# Altium footprint library PCB封装.PcbLib: 11 footprints
Each footprint in its own frame and in the unit in brackets; x right, y up, seen from the top. Pads: shape width x height; smd on the part's side, far side on the other; paste and mask are expansions set on the pad; w line width, h text height; cw(c..) or ccw(c..) is an arc to the next point about the centre after c.
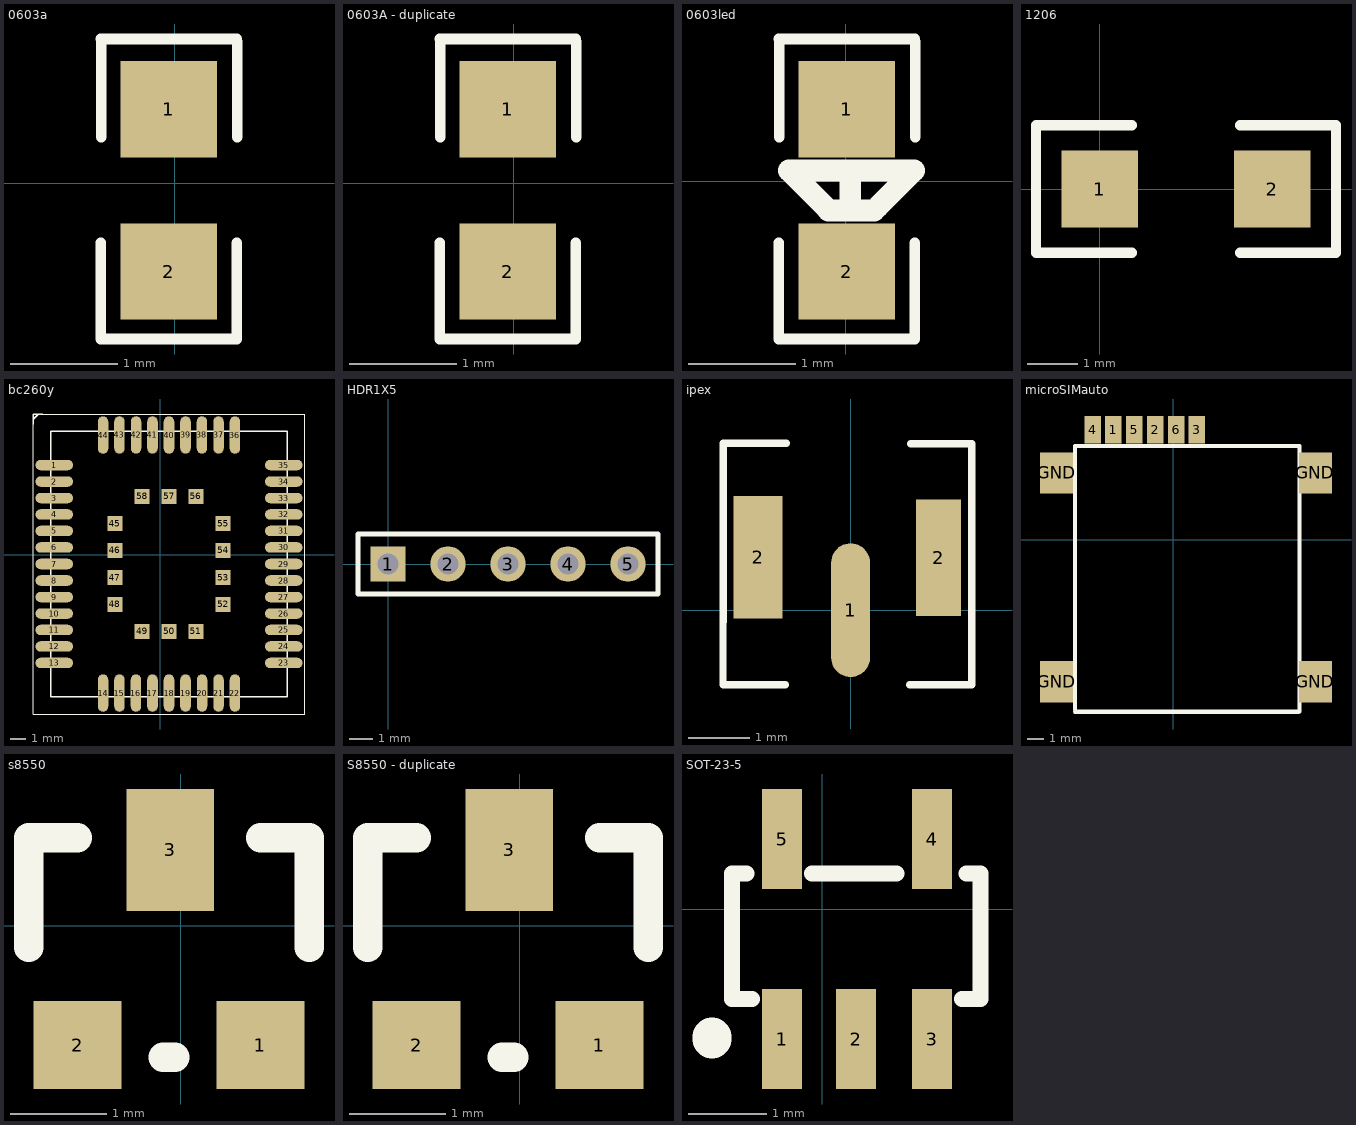
[diagram p0: the footprints below, top view; thin cyan lines are the x and y axes]

## 0603a [mm]
pads (2):
  rect 0.9x0.9 smd: 1(-0.058,0.688) 2(-0.058,-0.826)
Top Overlay:
  lines w0.1: -0.693,-1.446 -0.693,-0.557 ; -0.693,-1.457 0.577,-1.457 ; -0.692,1.345 0.578,1.345 ; -0.689,0.43 -0.689,1.319 ; 0.577,-1.45 0.577,-0.561 ; 0.582,0.43 0.582,1.319

## 0603A - duplicate [mm]
pads (2):
  rect 0.9x0.9 smd: 1(-0.058,0.688) 2(-0.058,-0.826)
Top Overlay:
  lines w0.1: -0.693,-1.446 -0.693,-0.557 ; -0.693,-1.457 0.577,-1.457 ; -0.692,1.345 0.578,1.345 ; -0.689,0.43 -0.689,1.319 ; 0.577,-1.45 0.577,-0.561 ; 0.582,0.43 0.582,1.319

## 0603led [mm]
pads (2):
  rect 0.9x0.9 smd: 1(0.009,0.673) 2(0.009,-0.842)
Top Overlay:
  lines w0.1: -0.626,-1.462 -0.626,-0.573 ; -0.625,-1.472 0.645,-1.472 ; -0.625,1.329 0.645,1.329 ; -0.621,0.414 -0.621,1.303 ; 0.645,-1.465 0.645,-0.576 ; 0.649,0.414 0.649,1.303
  lines w0.203: -0.175,-0.257 -0.533,0.102 0.639,0.102 0.303,-0.234 ; -0.164,-0.272 0.266,-0.272 ; 0.041,-0.196 0.041,0.023

## 1206 [mil]
pads (2):
  rect 60x60 smd: 1(0,0) 2(135,0)
Top Overlay:
  lines w8: 25,-50 -50,-50 -50,50 25,50 ; 110,-50 185,-50 185,50 110,50

## bc260y [mm]
pads (58):
  oval 2.5x0.7 smd mask+0.05: 1(-7.063,5.997) 2(-7.063,4.897) 3(-7.063,3.797) 4(-7.063,2.697) 5(-7.063,1.597) 6(-7.063,0.497) 7(-7.063,-0.603) 8(-7.063,-1.703) 9(-7.063,-2.803) 10(-7.063,-3.903) 11(-7.063,-5.003) 12(-7.063,-6.103) 13(-7.063,-7.203) 23(8.237,-7.203) 24(8.237,-6.103) 25(8.237,-5.003) 26(8.237,-3.903) 27(8.237,-2.803) 28(8.237,-1.703) 29(8.237,-0.603) 30(8.237,0.497) 31(8.237,1.597) 32(8.237,2.697) 33(8.237,3.797) 34(8.237,4.897) 35(8.237,5.997)
  oval 0.7x2.5 smd mask+0.05: 14(-3.813,-9.203) 15(-2.713,-9.203) 16(-1.613,-9.203) 17(-0.513,-9.203) 18(0.587,-9.203) 19(1.687,-9.203) 20(2.787,-9.203) 21(3.887,-9.203) 22(4.987,-9.203) 36(4.987,7.997) 37(3.887,7.997) 38(2.787,7.997) 39(1.687,7.997) 40(0.587,7.997) 41(-0.513,7.997) 42(-1.613,7.997) 43(-2.713,7.997) 44(-3.813,7.997)
  rect 1x1 smd mask+0.05: 45(-3.013,2.097) 46(-3.013,0.297) 47(-3.013,-1.503) 48(-3.013,-3.303) 49(-1.213,-5.103) 50(0.587,-5.103) 51(2.387,-5.103) 52(4.187,-3.303) 53(4.187,-1.503) 54(4.187,0.297) 55(4.187,2.097) 56(2.387,3.897) 57(0.587,3.897) 58(-1.213,3.897)
Top Overlay:
  lines w0.01: -8.463,-10.603 9.637,-10.603 9.637,9.397 -8.463,9.397 -8.463,-10.603
  lines w0.1: -8.463,8.722 -8.463,9.397 -7.813,9.397 ; -8.463,9.047 -8.138,9.372 ; -7.313,-9.453 8.487,-9.453 8.487,8.247 -7.313,8.247 -7.313,-9.453

## HDR1X5 [mm] "Connector; Header; 5 Position"
pads (5):
  rect 1.5x1.5 hole 0.9: 1(0,0)
  round 1.5 hole 0.9: 2(2.54,0) 3(5.08,0) 4(7.62,0) 5(10.16,0)
Top Overlay:
  lines w0.2: -1.27,-1.27 11.43,-1.27 11.43,1.27 -1.27,1.27 -1.27,-1.27

## ipex [mm]
pads (3):
  oval 0.635x2.184 smd: 1(0,0)
  rect 0.8x2 smd: 2(-1.508,0.861)
  rect 0.737x1.905 smd: 2(1.439,0.858)
Top Overlay:
  lines w0.12: -2.083,-0.203 -2.083,-1.219 -1.067,-1.219 ; -2.078,-0.195 -2.078,2.726 -1.05,2.726 ; 0.965,-1.219 1.981,-1.219 1.981,-0.203 1.981,2.718 0.982,2.718

## microSIMauto [mm]
pads (10):
  rect 1x1.65 smd: 1(-3.651,6.689) 2(-1.111,6.689) 3(1.429,6.689) 4(-4.921,6.689) 5(-2.381,6.689) 6(0.159,6.689)
  rect 2x2.5 smd: GND(-7.112,-8.636) GND(-7.112,4.064) GND(8.636,-8.636) GND(8.636,4.064)
Top Overlay:
  lines w0.254: -5.998,-10.325 -5.998,5.705 7.66,5.705 ; -5.991,-10.465 7.614,-10.465 ; 7.672,-10.449 7.672,5.692

## s8550 [mil]
pads (3):
  rect 36x36 smd: 1(32.66,-48.93) 2(-42.34,-48.93)
  rect 36x50 smd: 3(-4.34,31.07)
Top Overlay:
  lines w12: -62.34,-8.93 -62.34,36.07 -42.34,36.07 ; -7.34,-53.93 -2.34,-53.93 ; 32.66,36.07 52.66,36.07 52.66,-8.93

## S8550 - duplicate [mil]
pads (3):
  rect 36x36 smd: 1(32.66,-48.93) 2(-42.34,-48.93)
  rect 36x50 smd: 3(-4.34,31.07)
Top Overlay:
  lines w12: -62.34,-8.93 -62.34,36.07 -42.34,36.07 ; -7.34,-53.93 -2.34,-53.93 ; 32.66,36.07 52.66,36.07 52.66,-8.93

## SOT-23-5 [mil]
pads (5):
  rect 20x50 smd: 1(-20,-65) 2(17,-65) 3(55,-65) 4(55,35) 5(-20,35)
Top Overlay:
  lines w8: -37.76,17.76 -45,17.76 -45,-45 -35,-45 ; -5,17.76 37.24,17.76 ; 70,-45 79.32,-45 79.32,17.76 72.24,17.76
  lines w19.68: -55,-65 -55,-64